# Altium footprint library SULLINS_GBC06SABN-M30.PcbLib: 1 footprints
Each footprint in its own frame and in the unit in brackets; x right, y up, seen from the top. Pads: shape width x height; smd on the part's side, far side on the other; paste and mask are expansions set on the pad; w line width, h text height; cw(c..) or ccw(c..) is an arc to the next point about the centre after c.
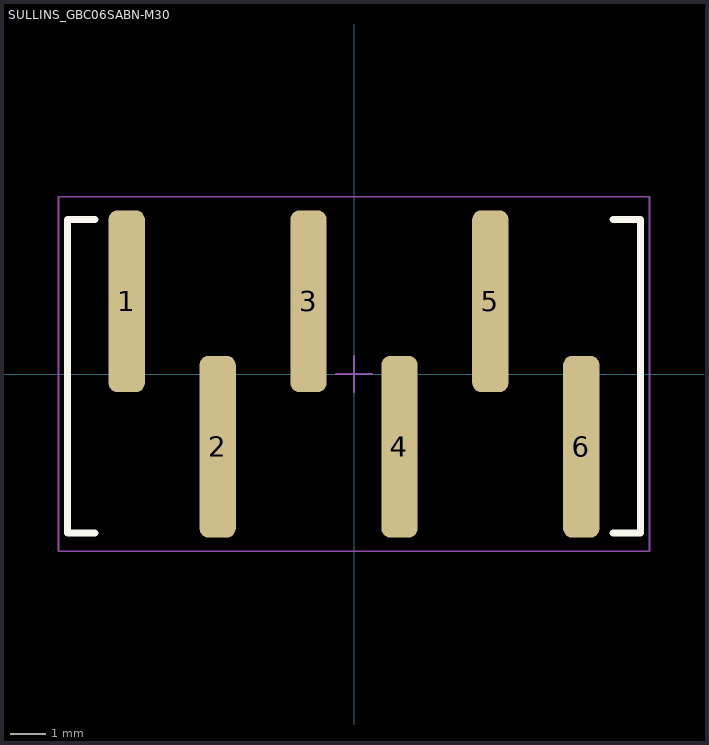
[diagram p0: the footprint, top view; thin cyan lines are the x and y axes]

## SULLINS_GBC06SABN-M30 [mil]
pads (6):
  rrect50% 40x200 smd: 1(-250,80) 2(-150,-80) 3(-50,80) 4(50,-80) 5(150,80) 6(250,-80)
Top Overlay:
  lines w7.87: -285,-175 -315,-175 -315,170 -285,170 ; 285,-175 315,-175 315,170 285,170
Mechanical 15:
  lines w1.97: -20,0 20,0 ; 0,-20 0,20 ; -325,-195 325,-195 325,195 -325,195 -325,-195
3D body "_ _C06SABN-M30.step": height 390, standoff 0.5, extent -300,-160 300,160